# EAGLE library part CONN-B8B-M8 (library TrackerBase2)
PH Series 2 mm Pitch 12 Position SMT Single Row Top Entry Shrouded Header
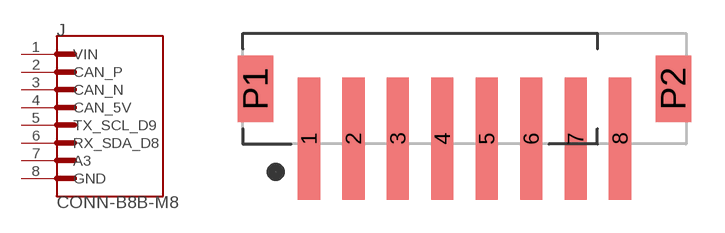
[diagram p0: symbol with the pads of JST_B8B-PH-SM4-TB(LF)(SN); footprint JST_B8B-PH-SM4-TB(LF)(SN)]

Designator prefix J

## CONN-B8B-M8  [JST_B8B-PH-SM4-TB(LF)(SN)]
1  VIN  pas
2  CAN_P  pas
3  CAN_N  pas
4  CAN_5V  pas
5  TX_SCL_D9  pas
6  RX_SDA_D8  pas
7  A3  pas
8  GND  pas

## Footprint JST_B8B-PH-SM4-TB(LF)(SN) (pad centres in mm)
smd 1 x 5.5: 1 -5,0; 2 -3,0; 3 -1,0; 4 1,0; 5 3,0; 6 5,0; 7 7,0; 8 9,0
smd 1.6 x 3: P1 -7.4,2.25; P2 11.4,2.25